# EAGLE library part LMZ12002 (library custom_parts)
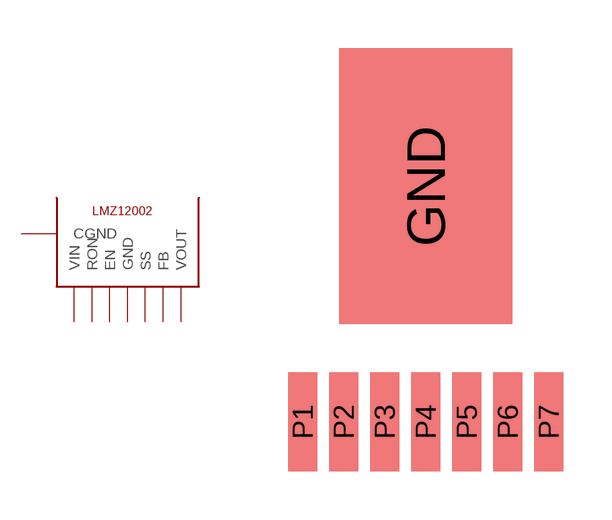
[diagram p10: symbol with the pads of TZA07A; footprint TZA07A]

Designator prefix -

## LMZ12002  [TZA07A]
GND  CGND
P1  VIN
P2  RON
P3  EN
P4  GND
P5  SS
P6  FB
P7  VOUT

## Footprint TZA07A (pad centres in mm)
smd 5.35 x 8.54: GND 0,7.305
smd 0.89 x 3.06: P1 -3.81,0; P2 -2.54,0; P3 -1.27,0; P4 0,0; P5 1.27,0; P6 2.54,0; P7 3.81,0